# EAGLE library part ICSP (library arcadetv)
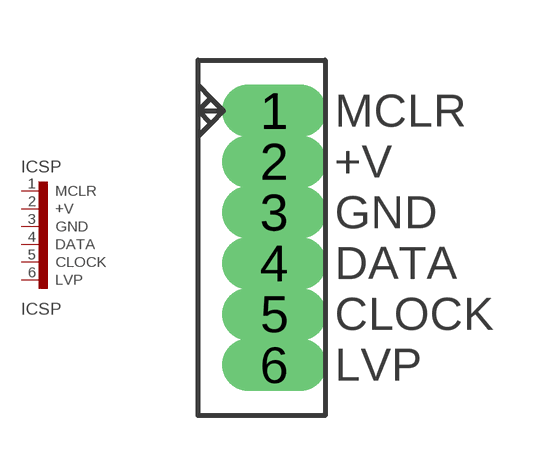
[diagram p6: symbol with the pads of ICSP; footprint ICSP]

Designator prefix ICSP

## ICSP  [ICSP]
1  MCLR
2  +V
3  GND
4  DATA
5  CLOCK
6  LVP

## Footprint ICSP (pad centres in mm)
drill 0.8 pad 1.016 long: 1 0,3.175; 2 0,1.905; 3 0,0.635; 4 0,-0.635; 5 0,-1.905; 6 0,-3.175